# Altium schematic symbol library Capacitors.SchLib: 4 symbols
Pins are listed as number, name and electrical type; pins without a type are passive.

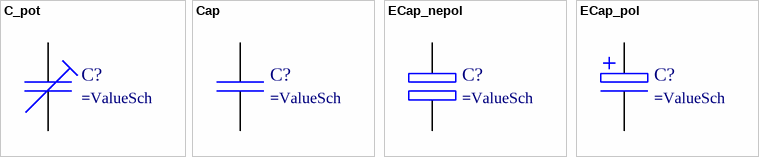
[diagram p0: symbols C_pot to ECap_pol]

## C_pot
designator C?
Подстроечный конденсатор
pins: 1, 2

## Cap
designator C?
Конденсатор
pins: 1, 2

## ECap_nepol
designator C?
Электролитический неполярный конденсатор
pins: 1, 2

## ECap_pol
designator C?
Электролитический полярный конденсатор
pins: Minus "Минус", Plus "Плюс"